# EAGLE library part IMC6 (library con-phoenix-381_l)
Invertierter Mini-Combicon 3.81mm horizontal 6-polig IMC 1,5/6-G-3,81 (ohne Gegenstecker)
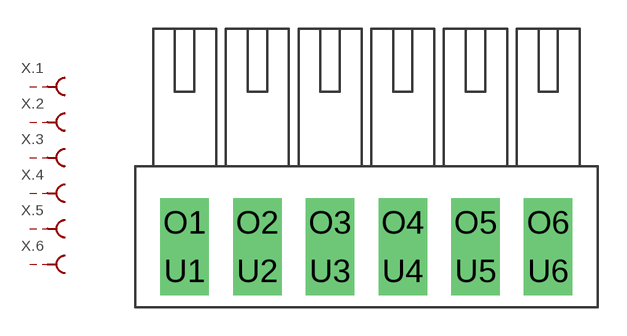
[diagram p21: symbol with the pads of IMC6; footprint IMC6]

Designator prefix X; gates .3=MCBU .2=MCBU .1=MCBU .4=MCBU .5=MCBU .6=MCBU

## IMC6  [IMC6]
O1  .1:S  pas
O2  .2:S  pas
O3  .3:S  pas
O4  .4:S  pas
O5  .5:S  pas
O6  .6:S  pas
U1  .1:SK  pas
U2  .2:SK  pas
U3  .3:SK  pas
U4  .4:SK  pas
U5  .5:SK  pas
U6  .6:SK  pas

## Footprint IMC6 (pad centres in mm)
Mini-Combicon 3.81mm horizontal 6-polig invertiert (ohne Gegenstecker)
drill 1.27 pad 2.54 square: O1 -9.525,1.27; O2 -5.715,1.27; O3 -1.905,1.27; O4 1.905,1.27; O5 5.715,1.27; O6 9.525,1.27; U1 -9.525,-1.27; U2 -5.715,-1.27; U3 -1.905,-1.27; U4 1.905,-1.27; U5 5.715,-1.27; U6 9.525,-1.27